# Altium schematic symbol library 3PDT_SW_SOLDERBOARD.SchLib: 1 symbol
Pins are listed as number, name and electrical type; pins without a type are passive.

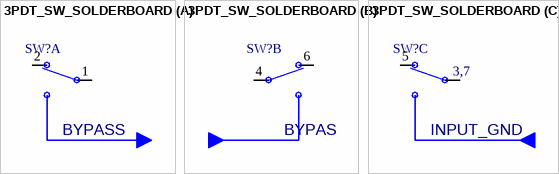
[diagram p0: symbol 3PDT_SW_SOLDERBOARD]

## 3PDT_SW_SOLDERBOARD
designator SW?  (value not drawn)
part A pins: 1, 2
part B pins: 4, 6
part C pins: 3, 5, 7
part A text: BYPASS
part B text: BYPASS
part C text: 3,7; INPUT_GND